# Altium schematic symbol library N-BJT BCP54.Schlib: 1 symbol
Pins are listed as number, name and electrical type; pins without a type are passive.

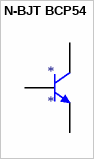
[diagram p0: symbol N-BJT BCP54]

## N-BJT BCP54
designator *
TRANS NPN 45V 1A SOT223; MF: Nexperia; MP: BCP54; Supplier 1: Digi-Key; Supplier Part Number 1: 1727-1531-1-ND
footprint SOT-23 (3)
pins: 1 B, 2 C, 3 E